# Altium schematic symbol library TPS564255DRLR.SchLib: 1 symbol
Pins are listed as number, name and electrical type; pins without a type are passive.

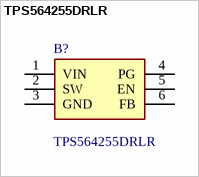
[diagram p0: symbol TPS564255DRLR]

## TPS564255DRLR
designator B?
3-V to 17-V input voltage, 4-A OOA mode, synchronous buck converter with PG; Manufacturer_Name: Texas Instruments; Geometry.Height: 0.6mm; Manufacturer_Part_Number: TPS564255DRLR; Mouser Part Number: 595-TPS564255DRLR; Mouser Price/Stock: https://www.mouser.co.uk/ProductDetail/Texas-Instruments/TPS564255DRLR?qs=ulEaXIWI0c8mPomYtvsyTw%3D%3D; Arrow Part Number: *; Arrow Price/Stock: *; Datasheet Link: https://www.ti.com/lit/ds/symlink/tps564257.pdf?HQS=dis-mous-null-mousermode-dsf-pf-null-wwe&ts=1695645096067&ref_url=https%253A%252F%252Fwww.mouser.com%252F
footprint SOTFL50P160X60-6N
pins: 1 VIN, 2 SW, 3 GND, 4 PG, 5 EN, 6 FB